# Altium integrated library Linear Technology Power Management Hot Swap Controllers.IntLib: 992 symbols (part 46 of 93)
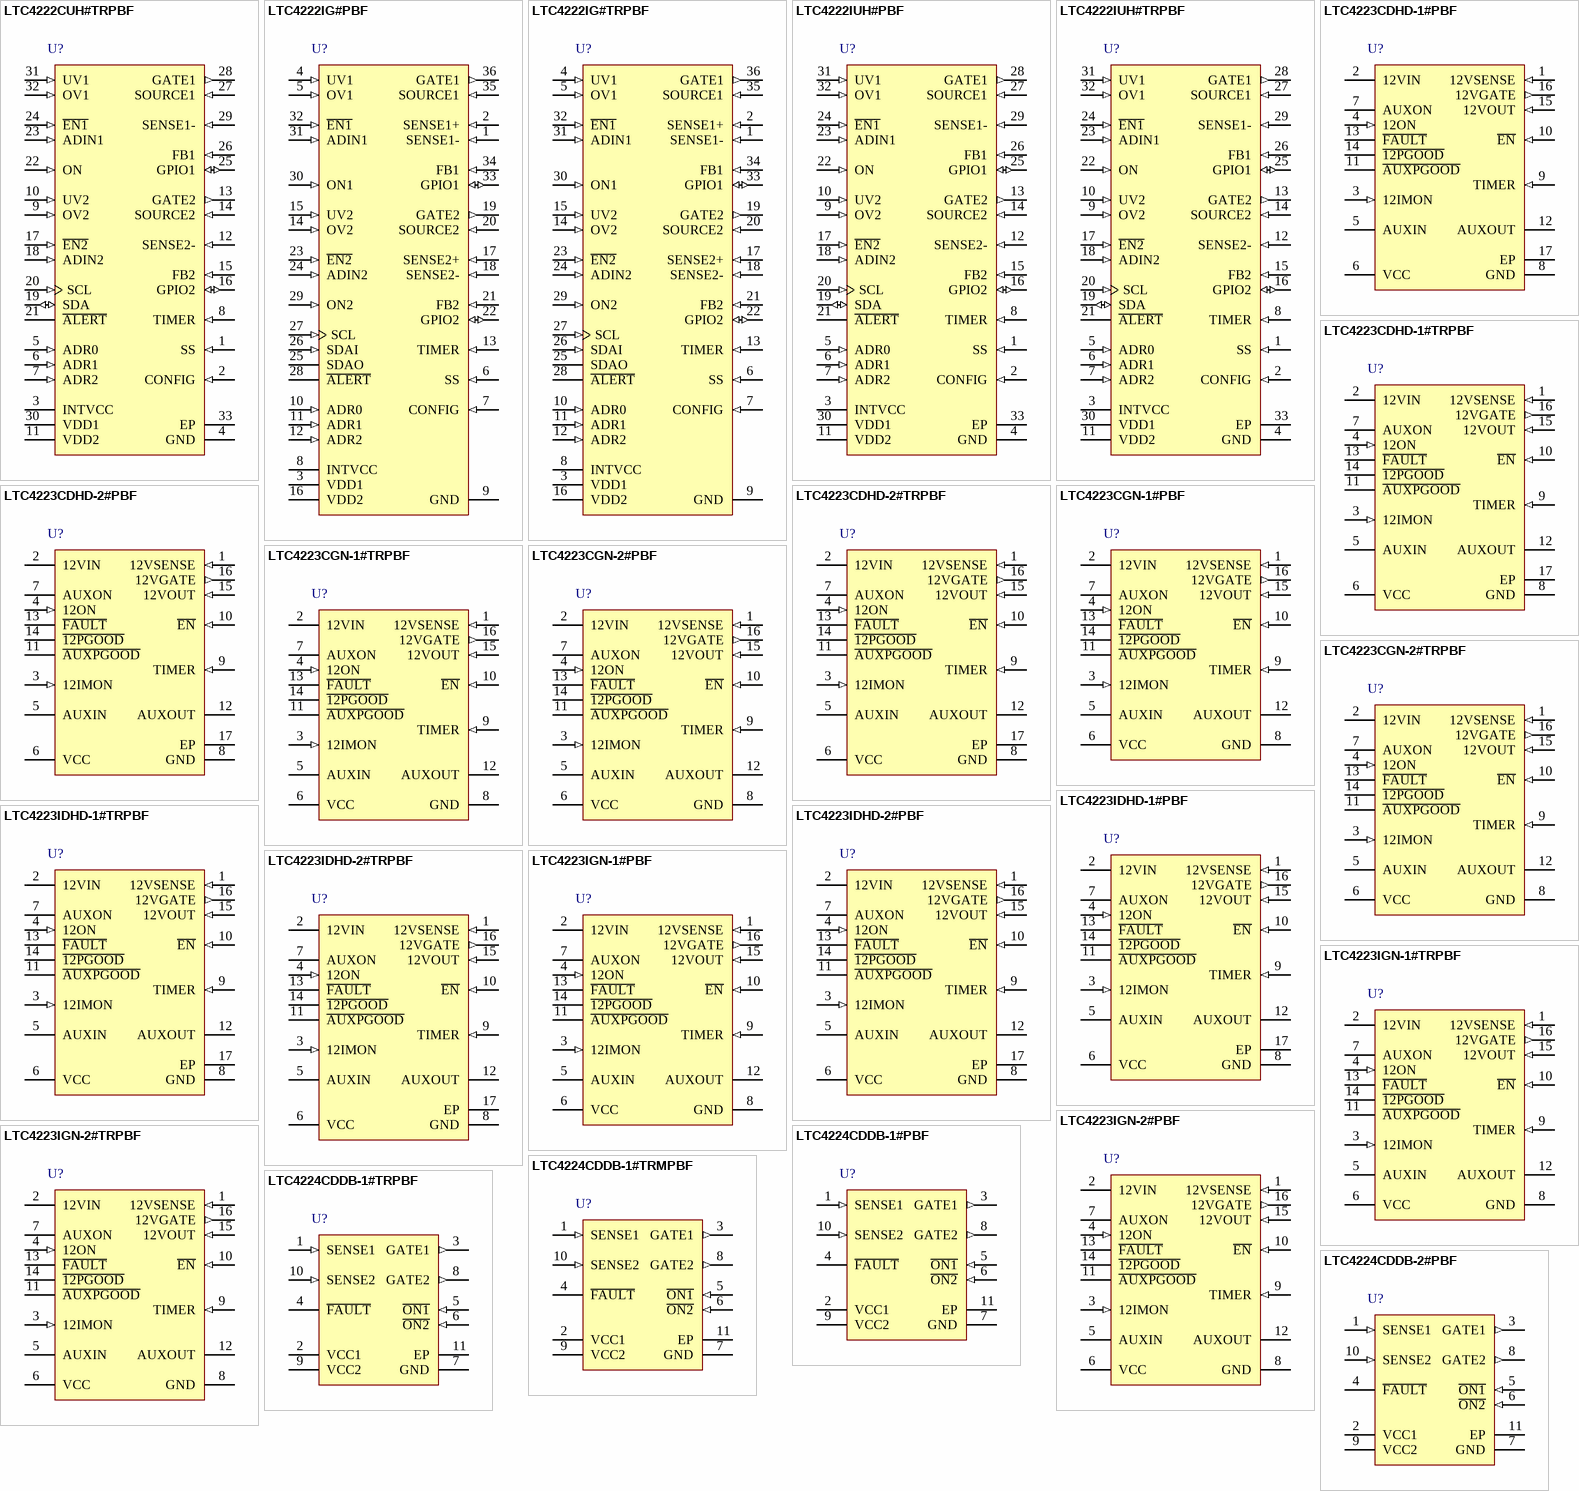
[diagram p82: symbols LTC4222CUH#TRPBF to LTC4224CDDB-2#PBF]

## LTC4223CGN-2#PBF
designator U?
Dual Supply Hot Swap Controller for Advanced Mezzanine Card, 2.7 to 6 V Vin, 16-pin SOP (GN-16), 0 to 70 degC, Pb-Free; Manufacturer: Linear Technology; PartNumber: LTC4223CGN-2#PBF; Active Limiting: yes; Circuit Breaker Accuracy(%): 5; Circuit Breaker Threshold: 50 mV (12), 240 mA (3.3 aux); Circuit Breakers(#): 2; Extended Temp: C, I; Foldback: no; PackageVersion: Rev. B, 03/2012; PackageReference: GN-16; PackageDescription: 16-Pin Plastic SSOP, Body 4.9 x 3.9 mm, Pitch 0.635 mm; Supplier 1: Digi-Key; Supplier Part Number 1: LTC4223CGN-2#PBF-ND; Fast Comparator: yes; Fault: yes; Power Good: yes; RoHS: TRUE; Vin Range: 2.7 to 6 V; Mounting Technology: Surface Mount; ComponentLink1Description: Manufacturer URL; ComponentLink1URL: http://www.linear.com/; ComponentLink2Description: Datasheet; ComponentLink2URL: http://cds.linear.com/docs/en/datasheet/422312f.pdf; ComponentLink3Description: Package Specification; ComponentLink3URL: http://cds.linear.com/docs/en/packaging/05081641_B_GN16.pdf
footprint LT-GN-16_N (SOP, 16-Leads, Body 5x4mm, Pitch 0.635mm, IPC Medium Density)
footprint LT-GN-16_L (SOP, 16-Leads, Body 5x4mm, Pitch 0.635mm, IPC High Density)
footprint LT-GN-16_M (SOP, 16-Leads, Body 5x4mm, Pitch 0.635mm, IPC Low Density)
pins: 1 12VSENSE (in) "12V Current Sense Input. Connect this pin to the output of the current sense resistor. The electronic circuit breaker trips if the voltage across the sense resistor exceeds 50mV for more than a fault filter delay.", 2 12VIN (power) "12V Supply Input. Undervoltage lockout disables the 12V supply until the input at 12VIN exceeds 9.7V.", 3 12IMON (in) "12V Current Sense Monitoring Output. This pin monitors the sense voltage between 12VIN and 12VSENSE. The gain ratio between this pin’s voltage and the sense voltage is 33.", 4 12ON (in) "12V Supply On Control Digital Input. A rising edge turns on the external N-channel MOSFET if E\N\ is pulled low and a falling edge turns it off. A high-to-low transition on this pin will clear the 12V supply faults.", 5 AUXIN (power) "Auxiliary Supply Input. An internal 0.3 ohm switch is connected between AUXIN and AUXOUT pins. Undervoltage lockout holds the switch off until the input at AUXIN exceeds 2.5V.", 6 VCC (power) "Bias Supply Input. This pin provides power to the device’s internal circuitry and operates from 2.7V to 6V. Undervoltage lockout circuit disables the device until the input at VCC exceeds 2.45V. Bypass with 330nF.", 7 AUXON (power) "Auxiliary Supply On Control Digital Input. A rising edge turns on the internal switch if E\N\ is pulled low and a falling edge turns it off. A high-to-low transition on both this pin and 12ON pin will clear the auxiliary (See Datasheet)", 8 GND (power) "Device Ground.", 9 TIMER (in) "Timer Capacitor Terminal. Connect a capacitor between this pin and ground to set a 741ms/uF duration for initial timing cycle, 123ms/uF for AUX current limit during power-up and 6ms/uF duration for 12V current limit before (See Datasheet)", 10 ~{EN} (in) "Enable Input Intended for Card Presence Detect. Ground this pin to enable the external N-channel MOSFET and internal switch to turn on. If this pin is pulled high, the switches are not allowed to turn on. An internal 100k (See Datasheet)", 11 ~{AUXPGOOD} (oc) "Auxiliary Supply Power Status Output. Open drain output that is normally pulled high by an internal 10uA current source or an external pull-up resistor to VCC. It pulls low when the AUXOUT pin voltage exceeds the power-good (See Datasheet)", 12 AUXOUT (power) "Auxiliary Supply Output. This pin is the output from the internal switch connected between AUXIN and AUXOUT pins. It signals A\U\X\P\G\O\O\D\ low when it exceeds 2.901V. A 750ohm active pull-down discharges AUXOUT to ground (See Datasheet)", 13 ~{FAULT} (oc) "Auxiliary and 12V Supply Fault Status Output. Open drain output that is normally pulled high by an internal 10uA current source or an external pull-up resistor to VCC. It pulls low when the circuit breaker is tripped due to (See Datasheet)", 14 ~{12PGOOD} (oc) "12V Supply Power Status Output. Open drain output that is normally pulled high by an internal 10uA current source or an external pull-up resistor to VCC. It pulls low when the 12VOUT pin voltage exceeds the power-good (See Datasheet)", 15 12VOUT (in) "12V Gate Drive Return and Power-Good Input. Connect this pin to the source of the external Nchannel MOSFET for gate drive return. This pin signals 1\2\P\G\O\O\D\ low when it exceeds 10.36V. When the external MOSFET is turned (See Datasheet)", 16 12VGATE (out) "Gate Drive for 12V Supply External NChannel MOSFET. An internal 10 uA current source charges the gate of the external N-channel MOSFET. An internal clamp limits the gate voltage to 6.2V above 12VOUT. A resistor and capacitor (See Datasheet)"

## LTC4223CGN-2#TRPBF
designator U?
Dual Supply Hot Swap Controller for Advanced Mezzanine Card, 2.7 to 6 V Vin, 16-pin SOP (GN-16), 0 to 70 degC, Pb-Free, Tape and Reel; Manufacturer: Linear Technology; PartNumber: LTC4223CGN-2#TRPBF; Active Limiting: yes; Circuit Breaker Accuracy(%): 5; Circuit Breaker Threshold: 50 mV (12), 240 mA (3.3 aux); Circuit Breakers(#): 2; Extended Temp: C, I; Foldback: no; PackageVersion: Rev. B, 03/2012; PackageReference: GN-16; PackageDescription: 16-Pin Plastic SSOP, Body 4.9 x 3.9 mm, Pitch 0.635 mm; Supplier 1: Digi-Key; Supplier Part Number 1: LTC4223CGN-2#TRPBF-ND; Fast Comparator: yes; Fault: yes; Packing: Tape and Reel; Power Good: yes; RoHS: TRUE; Vin Range: 2.7 to 6 V; Mounting Technology: Surface Mount; ComponentLink1Description: Manufacturer URL; ComponentLink1URL: http://www.linear.com/; ComponentLink2Description: Datasheet; ComponentLink2URL: http://cds.linear.com/docs/en/datasheet/422312f.pdf; ComponentLink3Description: Package Specification; ComponentLink3URL: http://cds.linear.com/docs/en/packaging/05081641_B_GN16.pdf
footprint LT-GN-16_N (SOP, 16-Leads, Body 5x4mm, Pitch 0.635mm, IPC Medium Density)
footprint LT-GN-16_L (SOP, 16-Leads, Body 5x4mm, Pitch 0.635mm, IPC High Density)
footprint LT-GN-16_M (SOP, 16-Leads, Body 5x4mm, Pitch 0.635mm, IPC Low Density)
pins: 1 12VSENSE (in) "12V Current Sense Input. Connect this pin to the output of the current sense resistor. The electronic circuit breaker trips if the voltage across the sense resistor exceeds 50mV for more than a fault filter delay.", 2 12VIN (power) "12V Supply Input. Undervoltage lockout disables the 12V supply until the input at 12VIN exceeds 9.7V.", 3 12IMON (in) "12V Current Sense Monitoring Output. This pin monitors the sense voltage between 12VIN and 12VSENSE. The gain ratio between this pin’s voltage and the sense voltage is 33.", 4 12ON (in) "12V Supply On Control Digital Input. A rising edge turns on the external N-channel MOSFET if E\N\ is pulled low and a falling edge turns it off. A high-to-low transition on this pin will clear the 12V supply faults.", 5 AUXIN (power) "Auxiliary Supply Input. An internal 0.3 ohm switch is connected between AUXIN and AUXOUT pins. Undervoltage lockout holds the switch off until the input at AUXIN exceeds 2.5V.", 6 VCC (power) "Bias Supply Input. This pin provides power to the device’s internal circuitry and operates from 2.7V to 6V. Undervoltage lockout circuit disables the device until the input at VCC exceeds 2.45V. Bypass with 330nF.", 7 AUXON (power) "Auxiliary Supply On Control Digital Input. A rising edge turns on the internal switch if E\N\ is pulled low and a falling edge turns it off. A high-to-low transition on both this pin and 12ON pin will clear the auxiliary (See Datasheet)", 8 GND (power) "Device Ground.", 9 TIMER (in) "Timer Capacitor Terminal. Connect a capacitor between this pin and ground to set a 741ms/uF duration for initial timing cycle, 123ms/uF for AUX current limit during power-up and 6ms/uF duration for 12V current limit before (See Datasheet)", 10 ~{EN} (in) "Enable Input Intended for Card Presence Detect. Ground this pin to enable the external N-channel MOSFET and internal switch to turn on. If this pin is pulled high, the switches are not allowed to turn on. An internal 100k (See Datasheet)", 11 ~{AUXPGOOD} (oc) "Auxiliary Supply Power Status Output. Open drain output that is normally pulled high by an internal 10uA current source or an external pull-up resistor to VCC. It pulls low when the AUXOUT pin voltage exceeds the power-good (See Datasheet)", 12 AUXOUT (power) "Auxiliary Supply Output. This pin is the output from the internal switch connected between AUXIN and AUXOUT pins. It signals A\U\X\P\G\O\O\D\ low when it exceeds 2.901V. A 750ohm active pull-down discharges AUXOUT to ground (See Datasheet)", 13 ~{FAULT} (oc) "Auxiliary and 12V Supply Fault Status Output. Open drain output that is normally pulled high by an internal 10uA current source or an external pull-up resistor to VCC. It pulls low when the circuit breaker is tripped due to (See Datasheet)", 14 ~{12PGOOD} (oc) "12V Supply Power Status Output. Open drain output that is normally pulled high by an internal 10uA current source or an external pull-up resistor to VCC. It pulls low when the 12VOUT pin voltage exceeds the power-good (See Datasheet)", 15 12VOUT (in) "12V Gate Drive Return and Power-Good Input. Connect this pin to the source of the external Nchannel MOSFET for gate drive return. This pin signals 1\2\P\G\O\O\D\ low when it exceeds 10.36V. When the external MOSFET is turned (See Datasheet)", 16 12VGATE (out) "Gate Drive for 12V Supply External NChannel MOSFET. An internal 10 uA current source charges the gate of the external N-channel MOSFET. An internal clamp limits the gate voltage to 6.2V above 12VOUT. A resistor and capacitor (See Datasheet)"

## LTC4223IDHD-1#PBF
designator U?
Dual Supply Hot Swap Controller for Advanced Mezzanine Card, 2.7 to 6 V Vin, 16-pin SON (DHD-16), -40 to 85 degC, Pb-Free; Manufacturer: Linear Technology; PartNumber: LTC4223IDHD-1#PBF; Active Limiting: yes; Circuit Breaker Accuracy(%): 5; Circuit Breaker Threshold: 50 mV (12), 240 mA (3.3 aux); Circuit Breakers(#): 2; Extended Temp: C, I; Foldback: no; PackageVersion: Jun-10; PackageReference: DHD-16; PackageDescription: 16-Pin Plastic DFN, Body 5 x 4 mm, Pitch 0.5 mm; Supplier 1: Digi-Key; Supplier Part Number 1: LTC4223IDHD-1#PBF-ND; Fast Comparator: yes; Fault: yes; Power Good: yes; RoHS: TRUE; Vin Range: 2.7 to 6 V; Mounting Technology: Surface Mount; Code_JEDEC: MO-229; ComponentLink1Description: Manufacturer URL; ComponentLink1URL: http://www.linear.com/; ComponentLink2Description: Datasheet; ComponentLink2URL: http://cds.linear.com/docs/en/datasheet/422312f.pdf; ComponentLink3Description: Package Specification; ComponentLink3URL: http://cds.linear.com/docs/en/packaging/DFN_16_05-08-1707.pdf
footprint LT-DHD-16_V (SON, 16-Leads, Body 5x4mm, Pitch 0.5mm, Thermal Pad 4.34x2.44mm)
pins: 1 12VSENSE (in) "12V Current Sense Input. Connect this pin to the output of the current sense resistor. The electronic circuit breaker trips if the voltage across the sense resistor exceeds 50mV for more than a fault filter delay.", 2 12VIN (power) "12V Supply Input. Undervoltage lockout disables the 12V supply until the input at 12VIN exceeds 9.7V.", 3 12IMON (in) "12V Current Sense Monitoring Output. This pin monitors the sense voltage between 12VIN and 12VSENSE. The gain ratio between this pin's voltage and the sense voltage is 33.", 4 12ON (in) "12V Supply On Control Digital Input. A rising edge turns on the external N-channel MOSFET if E\N\ is pulled low and a falling edge turns it off. A high-to-low transition on this pin will clear the 12V supply faults.", 5 AUXIN (power) "Auxiliary Supply Input. An internal 0.3 ohm switch is connected between AUXIN and AUXOUT pins. Undervoltage lockout holds the switch off until the input at AUXIN exceeds 2.5V.", 6 VCC (power) "Bias Supply Input. This pin provides power to the device's internal circuitry and operates from 2.7V to 6V. Undervoltage lockout circuit disables the device until the input at VCC exceeds 2.45V. Bypass with 330nF.", 7 AUXON (power) "Auxiliary Supply On Control Digital Input. A rising edge turns on the internal switch if E\N\ is pulled low and a falling edge turns it off. A high-to-low transition on both this pin and 12ON pin will clear the auxiliary (See Datasheet)", 8 GND (power) "Device Ground.", 9 TIMER (in) "Timer Capacitor Terminal. Connect a capacitor between this pin and ground to set a 741ms/uF duration for initial timing cycle, 123ms/uF for AUX current limit during power-up and 6ms/uF duration for 12V current limit before (See Datasheet)", 10 ~{EN} (in) "Enable Input Intended for Card Presence Detect. Ground this pin to enable the external N-channel MOSFET and internal switch to turn on. If this pin is pulled high, the switches are not allowed to turn on. An internal 100k (See Datasheet)", 11 ~{AUXPGOOD} (oc) "Auxiliary Supply Power Status Output. Open drain output that is normally pulled high by an internal 10uA current source or an external pull-up resistor to VCC. It pulls low when the AUXOUT pin voltage exceeds the power-good (See Datasheet)", 12 AUXOUT (power) "Auxiliary Supply Output. This pin is the output from the internal switch connected between AUXIN and AUXOUT pins. It signals A\U\X\P\G\O\O\D\ low when it exceeds 2.901V. A 750ohm active pull-down discharges AUXOUT to ground (See Datasheet)", 13 ~{FAULT} (oc) "Auxiliary and 12V Supply Fault Status Output. Open drain output that is normally pulled high by an internal 10uA current source or an external pull-up resistor to VCC. It pulls low when the circuit breaker is tripped due to (See Datasheet)", 14 ~{12PGOOD} (oc) "12V Supply Power Status Output. Open drain output that is normally pulled high by an internal 10uA current source or an external pull-up resistor to VCC. It pulls low when the 12VOUT pin voltage exceeds the power-good (See Datasheet)", 15 12VOUT (in) "12V Gate Drive Return and Power-Good Input. Connect this pin to the source of the external Nchannel MOSFET for gate drive return. This pin signals 1\2\P\G\O\O\D\ low when it exceeds 10.36V. When the external MOSFET is turned (See Datasheet)", 16 12VGATE (out) "Gate Drive for 12V Supply External NChannel MOSFET. An internal 10 uA current source charges the gate of the external N-channel MOSFET. An internal clamp limits the gate voltage to 6.2V above 12VOUT. A resistor and capacitor (See Datasheet)", 17 EP (power) "Exposed pad may be left open or connected to device ground."

## LTC4223IDHD-1#TRPBF
designator U?
Dual Supply Hot Swap Controller for Advanced Mezzanine Card, 2.7 to 6 V Vin, 16-pin SON (DHD-16), -40 to 85 degC, Pb-Free, Tape and Reel; Manufacturer: Linear Technology; PartNumber: LTC4223IDHD-1#TRPBF; Active Limiting: yes; Circuit Breaker Accuracy(%): 5; Circuit Breaker Threshold: 50 mV (12), 240 mA (3.3 aux); Circuit Breakers(#): 2; Extended Temp: C, I; Foldback: no; PackageVersion: Jun-10; PackageReference: DHD-16; PackageDescription: 16-Pin Plastic DFN, Body 5 x 4 mm, Pitch 0.5 mm; Supplier 1: Digi-Key; Supplier Part Number 1: LTC4223IDHD-1#TRPBF-ND; Fast Comparator: yes; Fault: yes; Packing: Tape and Reel; Power Good: yes; RoHS: TRUE; Vin Range: 2.7 to 6 V; Mounting Technology: Surface Mount; Code_JEDEC: MO-229; ComponentLink1Description: Manufacturer URL; ComponentLink1URL: http://www.linear.com/; ComponentLink2Description: Datasheet; ComponentLink2URL: http://cds.linear.com/docs/en/datasheet/422312f.pdf; ComponentLink3Description: Package Specification; ComponentLink3URL: http://cds.linear.com/docs/en/packaging/DFN_16_05-08-1707.pdf
footprint LT-DHD-16_V (SON, 16-Leads, Body 5x4mm, Pitch 0.5mm, Thermal Pad 4.34x2.44mm)
pins: 1 12VSENSE (in) "12V Current Sense Input. Connect this pin to the output of the current sense resistor. The electronic circuit breaker trips if the voltage across the sense resistor exceeds 50mV for more than a fault filter delay.", 2 12VIN (power) "12V Supply Input. Undervoltage lockout disables the 12V supply until the input at 12VIN exceeds 9.7V.", 3 12IMON (in) "12V Current Sense Monitoring Output. This pin monitors the sense voltage between 12VIN and 12VSENSE. The gain ratio between this pin's voltage and the sense voltage is 33.", 4 12ON (in) "12V Supply On Control Digital Input. A rising edge turns on the external N-channel MOSFET if E\N\ is pulled low and a falling edge turns it off. A high-to-low transition on this pin will clear the 12V supply faults.", 5 AUXIN (power) "Auxiliary Supply Input. An internal 0.3 ohm switch is connected between AUXIN and AUXOUT pins. Undervoltage lockout holds the switch off until the input at AUXIN exceeds 2.5V.", 6 VCC (power) "Bias Supply Input. This pin provides power to the device's internal circuitry and operates from 2.7V to 6V. Undervoltage lockout circuit disables the device until the input at VCC exceeds 2.45V. Bypass with 330nF.", 7 AUXON (power) "Auxiliary Supply On Control Digital Input. A rising edge turns on the internal switch if E\N\ is pulled low and a falling edge turns it off. A high-to-low transition on both this pin and 12ON pin will clear the auxiliary (See Datasheet)", 8 GND (power) "Device Ground.", 9 TIMER (in) "Timer Capacitor Terminal. Connect a capacitor between this pin and ground to set a 741ms/uF duration for initial timing cycle, 123ms/uF for AUX current limit during power-up and 6ms/uF duration for 12V current limit before (See Datasheet)", 10 ~{EN} (in) "Enable Input Intended for Card Presence Detect. Ground this pin to enable the external N-channel MOSFET and internal switch to turn on. If this pin is pulled high, the switches are not allowed to turn on. An internal 100k (See Datasheet)", 11 ~{AUXPGOOD} (oc) "Auxiliary Supply Power Status Output. Open drain output that is normally pulled high by an internal 10uA current source or an external pull-up resistor to VCC. It pulls low when the AUXOUT pin voltage exceeds the power-good (See Datasheet)", 12 AUXOUT (power) "Auxiliary Supply Output. This pin is the output from the internal switch connected between AUXIN and AUXOUT pins. It signals A\U\X\P\G\O\O\D\ low when it exceeds 2.901V. A 750ohm active pull-down discharges AUXOUT to ground (See Datasheet)", 13 ~{FAULT} (oc) "Auxiliary and 12V Supply Fault Status Output. Open drain output that is normally pulled high by an internal 10uA current source or an external pull-up resistor to VCC. It pulls low when the circuit breaker is tripped due to (See Datasheet)", 14 ~{12PGOOD} (oc) "12V Supply Power Status Output. Open drain output that is normally pulled high by an internal 10uA current source or an external pull-up resistor to VCC. It pulls low when the 12VOUT pin voltage exceeds the power-good (See Datasheet)", 15 12VOUT (in) "12V Gate Drive Return and Power-Good Input. Connect this pin to the source of the external Nchannel MOSFET for gate drive return. This pin signals 1\2\P\G\O\O\D\ low when it exceeds 10.36V. When the external MOSFET is turned (See Datasheet)", 16 12VGATE (out) "Gate Drive for 12V Supply External NChannel MOSFET. An internal 10 uA current source charges the gate of the external N-channel MOSFET. An internal clamp limits the gate voltage to 6.2V above 12VOUT. A resistor and capacitor (See Datasheet)", 17 EP (power) "Exposed pad may be left open or connected to device ground."

## LTC4223IDHD-2#PBF
designator U?
Dual Supply Hot Swap Controller for Advanced Mezzanine Card, 2.7 to 6 V Vin, 16-pin SON (DHD-16), -40 to 85 degC, Pb-Free; Manufacturer: Linear Technology; PartNumber: LTC4223IDHD-2#PBF; Active Limiting: yes; Circuit Breaker Accuracy(%): 5; Circuit Breaker Threshold: 50 mV (12), 240 mA (3.3 aux); Circuit Breakers(#): 2; Extended Temp: C, I; Foldback: no; PackageVersion: Jun-10; PackageReference: DHD-16; PackageDescription: 16-Pin Plastic DFN, Body 5 x 4 mm, Pitch 0.5 mm; Supplier 1: Digi-Key; Supplier Part Number 1: LTC4223IDHD-2#PBF-ND; Fast Comparator: yes; Fault: yes; Power Good: yes; RoHS: TRUE; Vin Range: 2.7 to 6 V; Mounting Technology: Surface Mount; Code_JEDEC: MO-229; ComponentLink1Description: Manufacturer URL; ComponentLink1URL: http://www.linear.com/; ComponentLink2Description: Datasheet; ComponentLink2URL: http://cds.linear.com/docs/en/datasheet/422312f.pdf; ComponentLink3Description: Package Specification; ComponentLink3URL: http://cds.linear.com/docs/en/packaging/DFN_16_05-08-1707.pdf
footprint LT-DHD-16_V (SON, 16-Leads, Body 5x4mm, Pitch 0.5mm, Thermal Pad 4.34x2.44mm)
pins: 1 12VSENSE (in) "12V Current Sense Input. Connect this pin to the output of the current sense resistor. The electronic circuit breaker trips if the voltage across the sense resistor exceeds 50mV for more than a fault filter delay.", 2 12VIN (power) "12V Supply Input. Undervoltage lockout disables the 12V supply until the input at 12VIN exceeds 9.7V.", 3 12IMON (in) "12V Current Sense Monitoring Output. This pin monitors the sense voltage between 12VIN and 12VSENSE. The gain ratio between this pin's voltage and the sense voltage is 33.", 4 12ON (in) "12V Supply On Control Digital Input. A rising edge turns on the external N-channel MOSFET if E\N\ is pulled low and a falling edge turns it off. A high-to-low transition on this pin will clear the 12V supply faults.", 5 AUXIN (power) "Auxiliary Supply Input. An internal 0.3 ohm switch is connected between AUXIN and AUXOUT pins. Undervoltage lockout holds the switch off until the input at AUXIN exceeds 2.5V.", 6 VCC (power) "Bias Supply Input. This pin provides power to the device's internal circuitry and operates from 2.7V to 6V. Undervoltage lockout circuit disables the device until the input at VCC exceeds 2.45V. Bypass with 330nF.", 7 AUXON (power) "Auxiliary Supply On Control Digital Input. A rising edge turns on the internal switch if E\N\ is pulled low and a falling edge turns it off. A high-to-low transition on both this pin and 12ON pin will clear the auxiliary (See Datasheet)", 8 GND (power) "Device Ground.", 9 TIMER (in) "Timer Capacitor Terminal. Connect a capacitor between this pin and ground to set a 741ms/uF duration for initial timing cycle, 123ms/uF for AUX current limit during power-up and 6ms/uF duration for 12V current limit before (See Datasheet)", 10 ~{EN} (in) "Enable Input Intended for Card Presence Detect. Ground this pin to enable the external N-channel MOSFET and internal switch to turn on. If this pin is pulled high, the switches are not allowed to turn on. An internal 100k (See Datasheet)", 11 ~{AUXPGOOD} (oc) "Auxiliary Supply Power Status Output. Open drain output that is normally pulled high by an internal 10uA current source or an external pull-up resistor to VCC. It pulls low when the AUXOUT pin voltage exceeds the power-good (See Datasheet)", 12 AUXOUT (power) "Auxiliary Supply Output. This pin is the output from the internal switch connected between AUXIN and AUXOUT pins. It signals A\U\X\P\G\O\O\D\ low when it exceeds 2.901V. A 750ohm active pull-down discharges AUXOUT to ground (See Datasheet)", 13 ~{FAULT} (oc) "Auxiliary and 12V Supply Fault Status Output. Open drain output that is normally pulled high by an internal 10uA current source or an external pull-up resistor to VCC. It pulls low when the circuit breaker is tripped due to (See Datasheet)", 14 ~{12PGOOD} (oc) "12V Supply Power Status Output. Open drain output that is normally pulled high by an internal 10uA current source or an external pull-up resistor to VCC. It pulls low when the 12VOUT pin voltage exceeds the power-good (See Datasheet)", 15 12VOUT (in) "12V Gate Drive Return and Power-Good Input. Connect this pin to the source of the external Nchannel MOSFET for gate drive return. This pin signals 1\2\P\G\O\O\D\ low when it exceeds 10.36V. When the external MOSFET is turned (See Datasheet)", 16 12VGATE (out) "Gate Drive for 12V Supply External NChannel MOSFET. An internal 10 uA current source charges the gate of the external N-channel MOSFET. An internal clamp limits the gate voltage to 6.2V above 12VOUT. A resistor and capacitor (See Datasheet)", 17 EP (power) "Exposed pad may be left open or connected to device ground."

## LTC4223IDHD-2#TRPBF
designator U?
Dual Supply Hot Swap Controller for Advanced Mezzanine Card, 2.7 to 6 V Vin, 16-pin SON (DHD-16), -40 to 85 degC, Pb-Free, Tape and Reel; Manufacturer: Linear Technology; PartNumber: LTC4223IDHD-2#TRPBF; Active Limiting: yes; Circuit Breaker Accuracy(%): 5; Circuit Breaker Threshold: 50 mV (12), 240 mA (3.3 aux); Circuit Breakers(#): 2; Extended Temp: C, I; Foldback: no; PackageVersion: Jun-10; PackageReference: DHD-16; PackageDescription: 16-Pin Plastic DFN, Body 5 x 4 mm, Pitch 0.5 mm; Supplier 1: Digi-Key; Supplier Part Number 1: LTC4223IDHD-2#TRPBF-ND; Fast Comparator: yes; Fault: yes; Packing: Tape and Reel; Power Good: yes; RoHS: TRUE; Vin Range: 2.7 to 6 V; Mounting Technology: Surface Mount; Code_JEDEC: MO-229; ComponentLink1Description: Manufacturer URL; ComponentLink1URL: http://www.linear.com/; ComponentLink2Description: Datasheet; ComponentLink2URL: http://cds.linear.com/docs/en/datasheet/422312f.pdf; ComponentLink3Description: Package Specification; ComponentLink3URL: http://cds.linear.com/docs/en/packaging/DFN_16_05-08-1707.pdf
footprint LT-DHD-16_V (SON, 16-Leads, Body 5x4mm, Pitch 0.5mm, Thermal Pad 4.34x2.44mm)
pins: 1 12VSENSE (in) "12V Current Sense Input. Connect this pin to the output of the current sense resistor. The electronic circuit breaker trips if the voltage across the sense resistor exceeds 50mV for more than a fault filter delay.", 2 12VIN (power) "12V Supply Input. Undervoltage lockout disables the 12V supply until the input at 12VIN exceeds 9.7V.", 3 12IMON (in) "12V Current Sense Monitoring Output. This pin monitors the sense voltage between 12VIN and 12VSENSE. The gain ratio between this pin's voltage and the sense voltage is 33.", 4 12ON (in) "12V Supply On Control Digital Input. A rising edge turns on the external N-channel MOSFET if E\N\ is pulled low and a falling edge turns it off. A high-to-low transition on this pin will clear the 12V supply faults.", 5 AUXIN (power) "Auxiliary Supply Input. An internal 0.3 ohm switch is connected between AUXIN and AUXOUT pins. Undervoltage lockout holds the switch off until the input at AUXIN exceeds 2.5V.", 6 VCC (power) "Bias Supply Input. This pin provides power to the device's internal circuitry and operates from 2.7V to 6V. Undervoltage lockout circuit disables the device until the input at VCC exceeds 2.45V. Bypass with 330nF.", 7 AUXON (power) "Auxiliary Supply On Control Digital Input. A rising edge turns on the internal switch if E\N\ is pulled low and a falling edge turns it off. A high-to-low transition on both this pin and 12ON pin will clear the auxiliary (See Datasheet)", 8 GND (power) "Device Ground.", 9 TIMER (in) "Timer Capacitor Terminal. Connect a capacitor between this pin and ground to set a 741ms/uF duration for initial timing cycle, 123ms/uF for AUX current limit during power-up and 6ms/uF duration for 12V current limit before (See Datasheet)", 10 ~{EN} (in) "Enable Input Intended for Card Presence Detect. Ground this pin to enable the external N-channel MOSFET and internal switch to turn on. If this pin is pulled high, the switches are not allowed to turn on. An internal 100k (See Datasheet)", 11 ~{AUXPGOOD} (oc) "Auxiliary Supply Power Status Output. Open drain output that is normally pulled high by an internal 10uA current source or an external pull-up resistor to VCC. It pulls low when the AUXOUT pin voltage exceeds the power-good (See Datasheet)", 12 AUXOUT (power) "Auxiliary Supply Output. This pin is the output from the internal switch connected between AUXIN and AUXOUT pins. It signals A\U\X\P\G\O\O\D\ low when it exceeds 2.901V. A 750ohm active pull-down discharges AUXOUT to ground (See Datasheet)", 13 ~{FAULT} (oc) "Auxiliary and 12V Supply Fault Status Output. Open drain output that is normally pulled high by an internal 10uA current source or an external pull-up resistor to VCC. It pulls low when the circuit breaker is tripped due to (See Datasheet)", 14 ~{12PGOOD} (oc) "12V Supply Power Status Output. Open drain output that is normally pulled high by an internal 10uA current source or an external pull-up resistor to VCC. It pulls low when the 12VOUT pin voltage exceeds the power-good (See Datasheet)", 15 12VOUT (in) "12V Gate Drive Return and Power-Good Input. Connect this pin to the source of the external Nchannel MOSFET for gate drive return. This pin signals 1\2\P\G\O\O\D\ low when it exceeds 10.36V. When the external MOSFET is turned (See Datasheet)", 16 12VGATE (out) "Gate Drive for 12V Supply External NChannel MOSFET. An internal 10 uA current source charges the gate of the external N-channel MOSFET. An internal clamp limits the gate voltage to 6.2V above 12VOUT. A resistor and capacitor (See Datasheet)", 17 EP (power) "Exposed pad may be left open or connected to device ground."

## LTC4223IGN-1#PBF
designator U?
Dual Supply Hot Swap Controller for Advanced Mezzanine Card, 2.7 to 6 V Vin, 16-pin SOP (GN-16), -40 to 85 degC, Pb-Free; Manufacturer: Linear Technology; PartNumber: LTC4223IGN-1#PBF; Active Limiting: yes; Circuit Breaker Accuracy(%): 5; Circuit Breaker Threshold: 50 mV (12), 240 mA (3.3 aux); Circuit Breakers(#): 2; Extended Temp: C, I; Foldback: no; PackageVersion: Rev. B, 03/2012; PackageReference: GN-16; PackageDescription: 16-Pin Plastic SSOP, Body 4.9 x 3.9 mm, Pitch 0.635 mm; Supplier 1: Digi-Key; Supplier Part Number 1: LTC4223IGN-1#PBF-ND; Supplier 2: Farnell; Supplier Part Number 2: 1432770; Supplier 3: Newark; Supplier Part Number 3: 56M8875; Fast Comparator: yes; Fault: yes; Power Good: yes; RoHS: TRUE; Vin Range: 2.7 to 6 V; Mounting Technology: Surface Mount; ComponentLink1Description: Manufacturer URL; ComponentLink1URL: http://www.linear.com/; ComponentLink2Description: Datasheet; ComponentLink2URL: http://cds.linear.com/docs/en/datasheet/422312f.pdf; ComponentLink3Description: Package Specification; ComponentLink3URL: http://cds.linear.com/docs/en/packaging/05081641_B_GN16.pdf
footprint LT-GN-16_N (SOP, 16-Leads, Body 5x4mm, Pitch 0.635mm, IPC Medium Density)
footprint LT-GN-16_L (SOP, 16-Leads, Body 5x4mm, Pitch 0.635mm, IPC High Density)
footprint LT-GN-16_M (SOP, 16-Leads, Body 5x4mm, Pitch 0.635mm, IPC Low Density)
pins: 1 12VSENSE (in) "12V Current Sense Input. Connect this pin to the output of the current sense resistor. The electronic circuit breaker trips if the voltage across the sense resistor exceeds 50mV for more than a fault filter delay.", 2 12VIN (power) "12V Supply Input. Undervoltage lockout disables the 12V supply until the input at 12VIN exceeds 9.7V.", 3 12IMON (in) "12V Current Sense Monitoring Output. This pin monitors the sense voltage between 12VIN and 12VSENSE. The gain ratio between this pin’s voltage and the sense voltage is 33.", 4 12ON (in) "12V Supply On Control Digital Input. A rising edge turns on the external N-channel MOSFET if E\N\ is pulled low and a falling edge turns it off. A high-to-low transition on this pin will clear the 12V supply faults.", 5 AUXIN (power) "Auxiliary Supply Input. An internal 0.3 ohm switch is connected between AUXIN and AUXOUT pins. Undervoltage lockout holds the switch off until the input at AUXIN exceeds 2.5V.", 6 VCC (power) "Bias Supply Input. This pin provides power to the device’s internal circuitry and operates from 2.7V to 6V. Undervoltage lockout circuit disables the device until the input at VCC exceeds 2.45V. Bypass with 330nF.", 7 AUXON (power) "Auxiliary Supply On Control Digital Input. A rising edge turns on the internal switch if E\N\ is pulled low and a falling edge turns it off. A high-to-low transition on both this pin and 12ON pin will clear the auxiliary (See Datasheet)", 8 GND (power) "Device Ground.", 9 TIMER (in) "Timer Capacitor Terminal. Connect a capacitor between this pin and ground to set a 741ms/uF duration for initial timing cycle, 123ms/uF for AUX current limit during power-up and 6ms/uF duration for 12V current limit before (See Datasheet)", 10 ~{EN} (in) "Enable Input Intended for Card Presence Detect. Ground this pin to enable the external N-channel MOSFET and internal switch to turn on. If this pin is pulled high, the switches are not allowed to turn on. An internal 100k (See Datasheet)", 11 ~{AUXPGOOD} (oc) "Auxiliary Supply Power Status Output. Open drain output that is normally pulled high by an internal 10uA current source or an external pull-up resistor to VCC. It pulls low when the AUXOUT pin voltage exceeds the power-good (See Datasheet)", 12 AUXOUT (power) "Auxiliary Supply Output. This pin is the output from the internal switch connected between AUXIN and AUXOUT pins. It signals A\U\X\P\G\O\O\D\ low when it exceeds 2.901V. A 750ohm active pull-down discharges AUXOUT to ground (See Datasheet)", 13 ~{FAULT} (oc) "Auxiliary and 12V Supply Fault Status Output. Open drain output that is normally pulled high by an internal 10uA current source or an external pull-up resistor to VCC. It pulls low when the circuit breaker is tripped due to (See Datasheet)", 14 ~{12PGOOD} (oc) "12V Supply Power Status Output. Open drain output that is normally pulled high by an internal 10uA current source or an external pull-up resistor to VCC. It pulls low when the 12VOUT pin voltage exceeds the power-good (See Datasheet)", 15 12VOUT (in) "12V Gate Drive Return and Power-Good Input. Connect this pin to the source of the external Nchannel MOSFET for gate drive return. This pin signals 1\2\P\G\O\O\D\ low when it exceeds 10.36V. When the external MOSFET is turned (See Datasheet)", 16 12VGATE (out) "Gate Drive for 12V Supply External NChannel MOSFET. An internal 10 uA current source charges the gate of the external N-channel MOSFET. An internal clamp limits the gate voltage to 6.2V above 12VOUT. A resistor and capacitor (See Datasheet)"

## LTC4223IGN-1#TRPBF
designator U?
Dual Supply Hot Swap Controller for Advanced Mezzanine Card, 2.7 to 6 V Vin, 16-pin SOP (GN-16), -40 to 85 degC, Pb-Free, Tape and Reel; Manufacturer: Linear Technology; PartNumber: LTC4223IGN-1#TRPBF; Active Limiting: yes; Circuit Breaker Accuracy(%): 5; Circuit Breaker Threshold: 50 mV (12), 240 mA (3.3 aux); Circuit Breakers(#): 2; Extended Temp: C, I; Foldback: no; PackageVersion: Rev. B, 03/2012; PackageReference: GN-16; PackageDescription: 16-Pin Plastic SSOP, Body 4.9 x 3.9 mm, Pitch 0.635 mm; Supplier 1: Digi-Key; Supplier Part Number 1: LTC4223IGN-1#TRPBF-ND; Fast Comparator: yes; Fault: yes; Packing: Tape and Reel; Power Good: yes; RoHS: TRUE; Vin Range: 2.7 to 6 V; Mounting Technology: Surface Mount; ComponentLink1Description: Manufacturer URL; ComponentLink1URL: http://www.linear.com/; ComponentLink2Description: Datasheet; ComponentLink2URL: http://cds.linear.com/docs/en/datasheet/422312f.pdf; ComponentLink3Description: Package Specification; ComponentLink3URL: http://cds.linear.com/docs/en/packaging/05081641_B_GN16.pdf
footprint LT-GN-16_N (SOP, 16-Leads, Body 5x4mm, Pitch 0.635mm, IPC Medium Density)
footprint LT-GN-16_L (SOP, 16-Leads, Body 5x4mm, Pitch 0.635mm, IPC High Density)
footprint LT-GN-16_M (SOP, 16-Leads, Body 5x4mm, Pitch 0.635mm, IPC Low Density)
pins: 1 12VSENSE (in) "12V Current Sense Input. Connect this pin to the output of the current sense resistor. The electronic circuit breaker trips if the voltage across the sense resistor exceeds 50mV for more than a fault filter delay.", 2 12VIN (power) "12V Supply Input. Undervoltage lockout disables the 12V supply until the input at 12VIN exceeds 9.7V.", 3 12IMON (in) "12V Current Sense Monitoring Output. This pin monitors the sense voltage between 12VIN and 12VSENSE. The gain ratio between this pin’s voltage and the sense voltage is 33.", 4 12ON (in) "12V Supply On Control Digital Input. A rising edge turns on the external N-channel MOSFET if E\N\ is pulled low and a falling edge turns it off. A high-to-low transition on this pin will clear the 12V supply faults.", 5 AUXIN (power) "Auxiliary Supply Input. An internal 0.3 ohm switch is connected between AUXIN and AUXOUT pins. Undervoltage lockout holds the switch off until the input at AUXIN exceeds 2.5V.", 6 VCC (power) "Bias Supply Input. This pin provides power to the device’s internal circuitry and operates from 2.7V to 6V. Undervoltage lockout circuit disables the device until the input at VCC exceeds 2.45V. Bypass with 330nF.", 7 AUXON (power) "Auxiliary Supply On Control Digital Input. A rising edge turns on the internal switch if E\N\ is pulled low and a falling edge turns it off. A high-to-low transition on both this pin and 12ON pin will clear the auxiliary (See Datasheet)", 8 GND (power) "Device Ground.", 9 TIMER (in) "Timer Capacitor Terminal. Connect a capacitor between this pin and ground to set a 741ms/uF duration for initial timing cycle, 123ms/uF for AUX current limit during power-up and 6ms/uF duration for 12V current limit before (See Datasheet)", 10 ~{EN} (in) "Enable Input Intended for Card Presence Detect. Ground this pin to enable the external N-channel MOSFET and internal switch to turn on. If this pin is pulled high, the switches are not allowed to turn on. An internal 100k (See Datasheet)", 11 ~{AUXPGOOD} (oc) "Auxiliary Supply Power Status Output. Open drain output that is normally pulled high by an internal 10uA current source or an external pull-up resistor to VCC. It pulls low when the AUXOUT pin voltage exceeds the power-good (See Datasheet)", 12 AUXOUT (power) "Auxiliary Supply Output. This pin is the output from the internal switch connected between AUXIN and AUXOUT pins. It signals A\U\X\P\G\O\O\D\ low when it exceeds 2.901V. A 750ohm active pull-down discharges AUXOUT to ground (See Datasheet)", 13 ~{FAULT} (oc) "Auxiliary and 12V Supply Fault Status Output. Open drain output that is normally pulled high by an internal 10uA current source or an external pull-up resistor to VCC. It pulls low when the circuit breaker is tripped due to (See Datasheet)", 14 ~{12PGOOD} (oc) "12V Supply Power Status Output. Open drain output that is normally pulled high by an internal 10uA current source or an external pull-up resistor to VCC. It pulls low when the 12VOUT pin voltage exceeds the power-good (See Datasheet)", 15 12VOUT (in) "12V Gate Drive Return and Power-Good Input. Connect this pin to the source of the external Nchannel MOSFET for gate drive return. This pin signals 1\2\P\G\O\O\D\ low when it exceeds 10.36V. When the external MOSFET is turned (See Datasheet)", 16 12VGATE (out) "Gate Drive for 12V Supply External NChannel MOSFET. An internal 10 uA current source charges the gate of the external N-channel MOSFET. An internal clamp limits the gate voltage to 6.2V above 12VOUT. A resistor and capacitor (See Datasheet)"

## LTC4223IGN-2#PBF
designator U?
Dual Supply Hot Swap Controller for Advanced Mezzanine Card, 2.7 to 6 V Vin, 16-pin SOP (GN-16), -40 to 85 degC, Pb-Free; Manufacturer: Linear Technology; PartNumber: LTC4223IGN-2#PBF; Active Limiting: yes; Circuit Breaker Accuracy(%): 5; Circuit Breaker Threshold: 50 mV (12), 240 mA (3.3 aux); Circuit Breakers(#): 2; Extended Temp: C, I; Foldback: no; PackageVersion: Rev. B, 03/2012; PackageReference: GN-16; PackageDescription: 16-Pin Plastic SSOP, Body 4.9 x 3.9 mm, Pitch 0.635 mm; Supplier 1: Digi-Key; Supplier Part Number 1: LTC4223IGN-2#PBF-ND; Fast Comparator: yes; Fault: yes; Power Good: yes; RoHS: TRUE; Vin Range: 2.7 to 6 V; Mounting Technology: Surface Mount; ComponentLink1Description: Manufacturer URL; ComponentLink1URL: http://www.linear.com/; ComponentLink2Description: Datasheet; ComponentLink2URL: http://cds.linear.com/docs/en/datasheet/422312f.pdf; ComponentLink3Description: Package Specification; ComponentLink3URL: http://cds.linear.com/docs/en/packaging/05081641_B_GN16.pdf
footprint LT-GN-16_N (SOP, 16-Leads, Body 5x4mm, Pitch 0.635mm, IPC Medium Density)
footprint LT-GN-16_L (SOP, 16-Leads, Body 5x4mm, Pitch 0.635mm, IPC High Density)
footprint LT-GN-16_M (SOP, 16-Leads, Body 5x4mm, Pitch 0.635mm, IPC Low Density)
pins: 1 12VSENSE (in) "12V Current Sense Input. Connect this pin to the output of the current sense resistor. The electronic circuit breaker trips if the voltage across the sense resistor exceeds 50mV for more than a fault filter delay.", 2 12VIN (power) "12V Supply Input. Undervoltage lockout disables the 12V supply until the input at 12VIN exceeds 9.7V.", 3 12IMON (in) "12V Current Sense Monitoring Output. This pin monitors the sense voltage between 12VIN and 12VSENSE. The gain ratio between this pin’s voltage and the sense voltage is 33.", 4 12ON (in) "12V Supply On Control Digital Input. A rising edge turns on the external N-channel MOSFET if E\N\ is pulled low and a falling edge turns it off. A high-to-low transition on this pin will clear the 12V supply faults.", 5 AUXIN (power) "Auxiliary Supply Input. An internal 0.3 ohm switch is connected between AUXIN and AUXOUT pins. Undervoltage lockout holds the switch off until the input at AUXIN exceeds 2.5V.", 6 VCC (power) "Bias Supply Input. This pin provides power to the device’s internal circuitry and operates from 2.7V to 6V. Undervoltage lockout circuit disables the device until the input at VCC exceeds 2.45V. Bypass with 330nF.", 7 AUXON (power) "Auxiliary Supply On Control Digital Input. A rising edge turns on the internal switch if E\N\ is pulled low and a falling edge turns it off. A high-to-low transition on both this pin and 12ON pin will clear the auxiliary (See Datasheet)", 8 GND (power) "Device Ground.", 9 TIMER (in) "Timer Capacitor Terminal. Connect a capacitor between this pin and ground to set a 741ms/uF duration for initial timing cycle, 123ms/uF for AUX current limit during power-up and 6ms/uF duration for 12V current limit before (See Datasheet)", 10 ~{EN} (in) "Enable Input Intended for Card Presence Detect. Ground this pin to enable the external N-channel MOSFET and internal switch to turn on. If this pin is pulled high, the switches are not allowed to turn on. An internal 100k (See Datasheet)", 11 ~{AUXPGOOD} (oc) "Auxiliary Supply Power Status Output. Open drain output that is normally pulled high by an internal 10uA current source or an external pull-up resistor to VCC. It pulls low when the AUXOUT pin voltage exceeds the power-good (See Datasheet)", 12 AUXOUT (power) "Auxiliary Supply Output. This pin is the output from the internal switch connected between AUXIN and AUXOUT pins. It signals A\U\X\P\G\O\O\D\ low when it exceeds 2.901V. A 750ohm active pull-down discharges AUXOUT to ground (See Datasheet)", 13 ~{FAULT} (oc) "Auxiliary and 12V Supply Fault Status Output. Open drain output that is normally pulled high by an internal 10uA current source or an external pull-up resistor to VCC. It pulls low when the circuit breaker is tripped due to (See Datasheet)", 14 ~{12PGOOD} (oc) "12V Supply Power Status Output. Open drain output that is normally pulled high by an internal 10uA current source or an external pull-up resistor to VCC. It pulls low when the 12VOUT pin voltage exceeds the power-good (See Datasheet)", 15 12VOUT (in) "12V Gate Drive Return and Power-Good Input. Connect this pin to the source of the external Nchannel MOSFET for gate drive return. This pin signals 1\2\P\G\O\O\D\ low when it exceeds 10.36V. When the external MOSFET is turned (See Datasheet)", 16 12VGATE (out) "Gate Drive for 12V Supply External NChannel MOSFET. An internal 10 uA current source charges the gate of the external N-channel MOSFET. An internal clamp limits the gate voltage to 6.2V above 12VOUT. A resistor and capacitor (See Datasheet)"

## LTC4223IGN-2#TRPBF
designator U?
Dual Supply Hot Swap Controller for Advanced Mezzanine Card, 2.7 to 6 V Vin, 16-pin SOP (GN-16), -40 to 85 degC, Pb-Free, Tape and Reel; Manufacturer: Linear Technology; PartNumber: LTC4223IGN-2#TRPBF; Active Limiting: yes; Circuit Breaker Accuracy(%): 5; Circuit Breaker Threshold: 50 mV (12), 240 mA (3.3 aux); Circuit Breakers(#): 2; Extended Temp: C, I; Foldback: no; PackageVersion: Rev. B, 03/2012; PackageReference: GN-16; PackageDescription: 16-Pin Plastic SSOP, Body 4.9 x 3.9 mm, Pitch 0.635 mm; Supplier 1: Digi-Key; Supplier Part Number 1: LTC4223IGN-2#TRPBF-ND; Fast Comparator: yes; Fault: yes; Packing: Tape and Reel; Power Good: yes; RoHS: TRUE; Vin Range: 2.7 to 6 V; Mounting Technology: Surface Mount; ComponentLink1Description: Manufacturer URL; ComponentLink1URL: http://www.linear.com/; ComponentLink2Description: Datasheet; ComponentLink2URL: http://cds.linear.com/docs/en/datasheet/422312f.pdf; ComponentLink3Description: Package Specification; ComponentLink3URL: http://cds.linear.com/docs/en/packaging/05081641_B_GN16.pdf
footprint LT-GN-16_N (SOP, 16-Leads, Body 5x4mm, Pitch 0.635mm, IPC Medium Density)
footprint LT-GN-16_L (SOP, 16-Leads, Body 5x4mm, Pitch 0.635mm, IPC High Density)
footprint LT-GN-16_M (SOP, 16-Leads, Body 5x4mm, Pitch 0.635mm, IPC Low Density)
pins: 1 12VSENSE (in) "12V Current Sense Input. Connect this pin to the output of the current sense resistor. The electronic circuit breaker trips if the voltage across the sense resistor exceeds 50mV for more than a fault filter delay.", 2 12VIN (power) "12V Supply Input. Undervoltage lockout disables the 12V supply until the input at 12VIN exceeds 9.7V.", 3 12IMON (in) "12V Current Sense Monitoring Output. This pin monitors the sense voltage between 12VIN and 12VSENSE. The gain ratio between this pin’s voltage and the sense voltage is 33.", 4 12ON (in) "12V Supply On Control Digital Input. A rising edge turns on the external N-channel MOSFET if E\N\ is pulled low and a falling edge turns it off. A high-to-low transition on this pin will clear the 12V supply faults.", 5 AUXIN (power) "Auxiliary Supply Input. An internal 0.3 ohm switch is connected between AUXIN and AUXOUT pins. Undervoltage lockout holds the switch off until the input at AUXIN exceeds 2.5V.", 6 VCC (power) "Bias Supply Input. This pin provides power to the device’s internal circuitry and operates from 2.7V to 6V. Undervoltage lockout circuit disables the device until the input at VCC exceeds 2.45V. Bypass with 330nF.", 7 AUXON (power) "Auxiliary Supply On Control Digital Input. A rising edge turns on the internal switch if E\N\ is pulled low and a falling edge turns it off. A high-to-low transition on both this pin and 12ON pin will clear the auxiliary (See Datasheet)", 8 GND (power) "Device Ground.", 9 TIMER (in) "Timer Capacitor Terminal. Connect a capacitor between this pin and ground to set a 741ms/uF duration for initial timing cycle, 123ms/uF for AUX current limit during power-up and 6ms/uF duration for 12V current limit before (See Datasheet)", 10 ~{EN} (in) "Enable Input Intended for Card Presence Detect. Ground this pin to enable the external N-channel MOSFET and internal switch to turn on. If this pin is pulled high, the switches are not allowed to turn on. An internal 100k (See Datasheet)", 11 ~{AUXPGOOD} (oc) "Auxiliary Supply Power Status Output. Open drain output that is normally pulled high by an internal 10uA current source or an external pull-up resistor to VCC. It pulls low when the AUXOUT pin voltage exceeds the power-good (See Datasheet)", 12 AUXOUT (power) "Auxiliary Supply Output. This pin is the output from the internal switch connected between AUXIN and AUXOUT pins. It signals A\U\X\P\G\O\O\D\ low when it exceeds 2.901V. A 750ohm active pull-down discharges AUXOUT to ground (See Datasheet)", 13 ~{FAULT} (oc) "Auxiliary and 12V Supply Fault Status Output. Open drain output that is normally pulled high by an internal 10uA current source or an external pull-up resistor to VCC. It pulls low when the circuit breaker is tripped due to (See Datasheet)", 14 ~{12PGOOD} (oc) "12V Supply Power Status Output. Open drain output that is normally pulled high by an internal 10uA current source or an external pull-up resistor to VCC. It pulls low when the 12VOUT pin voltage exceeds the power-good (See Datasheet)", 15 12VOUT (in) "12V Gate Drive Return and Power-Good Input. Connect this pin to the source of the external Nchannel MOSFET for gate drive return. This pin signals 1\2\P\G\O\O\D\ low when it exceeds 10.36V. When the external MOSFET is turned (See Datasheet)", 16 12VGATE (out) "Gate Drive for 12V Supply External NChannel MOSFET. An internal 10 uA current source charges the gate of the external N-channel MOSFET. An internal clamp limits the gate voltage to 6.2V above 12VOUT. A resistor and capacitor (See Datasheet)"